# EAGLE library part PT04,5-2 (library trafo)
TRANSFORMER 1 primary winding, temp. protection fuse, 2 secondary windings/ mounting hole BLOCK
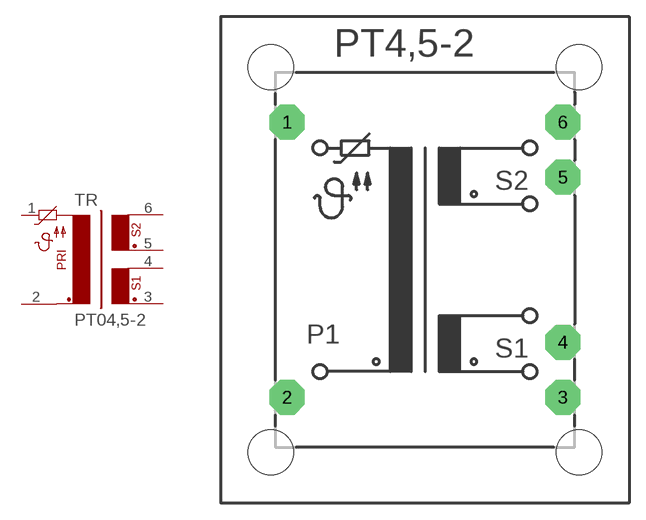
[diagram p4: symbol with the pads of PT04,5-2; footprint PT04,5-2]

Designator prefix TR

## PT04,5-2  [PT04,5-2]
1  1  pas
2  2  pas
3  3  pas
4  4  pas
5  5  pas
6  6  pas

## Footprint PT04,5-2 (pad centres in mm)
TRANSFORMER 1 primary winding, 2 secondary windings, temp. protection fuse, mounting holes
drill 1.397 pad 3.175 octagon: 1 -12.522,12.497; 2 -12.522,-12.497; 3 12.522,-12.497; 4 12.522,-7.493; 5 12.522,7.493; 6 12.522,12.497
hole 4.115 at -13.995,-17.501
hole 4.115 at -13.995,17.501
hole 4.115 at 13.995,17.501
hole 4.115 at 13.995,-17.501